# Altium footprint library CAPMP3528X210N.PcbLib: 1 footprints
Each footprint in its own frame and in the unit in brackets; x right, y up, seen from the top. Pads: shape width x height; smd on the part's side, far side on the other; paste and mask are expansions set on the pad; w line width, h text height; cw(c..) or ccw(c..) is an arc to the next point about the centre after c.
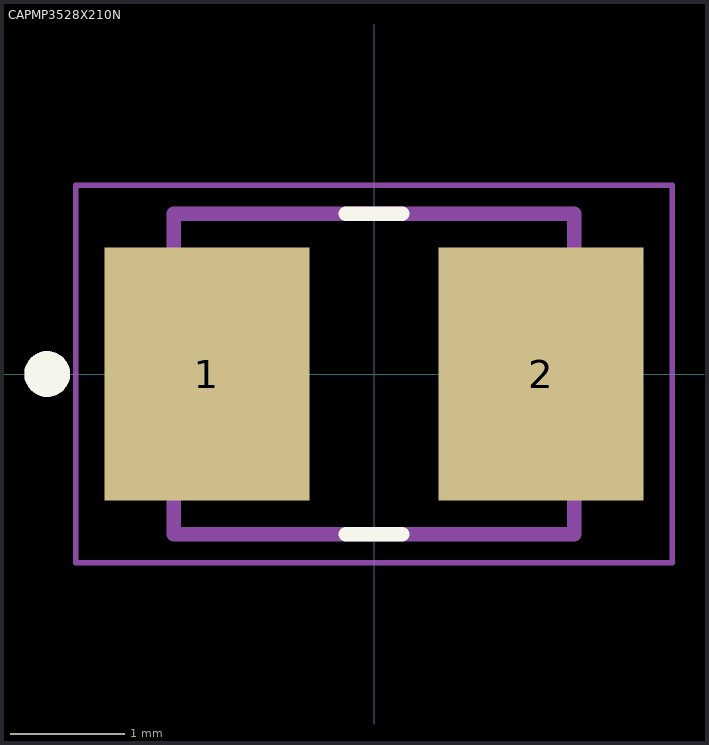
[diagram p0: the footprint, top view; thin cyan lines are the x and y axes]

## CAPMP3528X210N [mm]
height 2.1
pads (2):
  rect 1.79x2.21 smd: 1(-1.46,0) 2(1.46,0)
Top Overlay:
  circle w0.2: c-2.855,0 r0.1
  lines w0.127: -0.245,-1.4 0.245,-1.4 ; -0.245,1.4 0.245,1.4
Assembly Top:
  circle w0.2: c-2.855,0 r0.1
  lines w0.127: -1.75,-1.4 1.75,-1.4 1.75,1.4 -1.75,1.4 -1.75,-1.4
Courtyard Top:
  lines w0.05: -2.605,-1.65 2.605,-1.65 2.605,1.65 -2.605,1.65 -2.605,-1.65
3D body "step_temp.STEP": height 2.1, standoff 0, extent -1.75,-1.4 1.75,1.4